# Altium footprint library DIODE_SOD-323-2.PcbLib: 1 footprints
Each footprint in its own frame and in the unit in brackets; x right, y up, seen from the top. Pads: shape width x height; smd on the part's side, far side on the other; paste and mask are expansions set on the pad; w line width, h text height; cw(c..) or ccw(c..) is an arc to the next point about the centre after c.
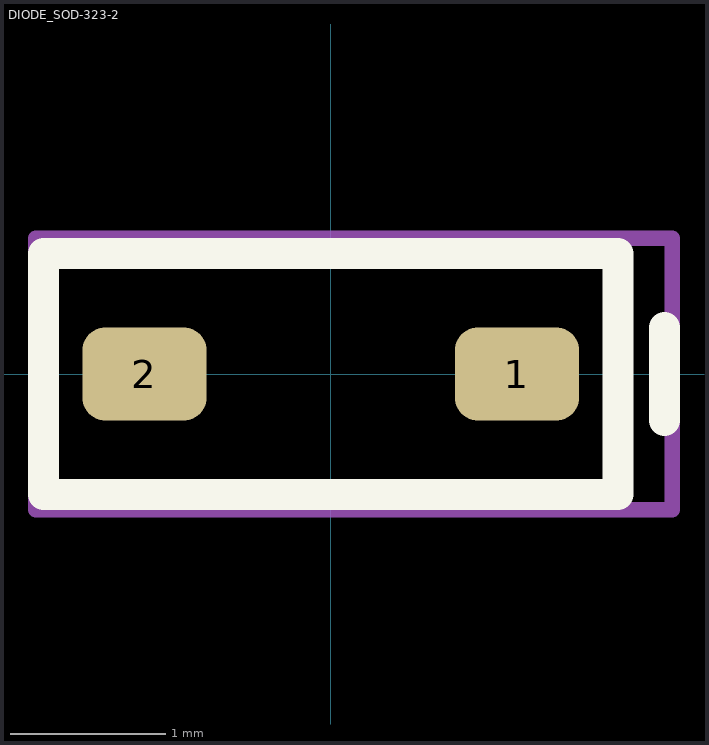
[diagram p0: the footprint, top view; thin cyan lines are the x and y axes]

## DIODE_SOD-323-2 [mm]
pads (2):
  rrect50% 0.8x0.6 smd: 1(1.2,0) 2(-1.2,0)
Top Overlay:
  lines w0.2: 2.15,-0.3 2.15,0.3 ; -1.85,-0.775 1.85,-0.775 1.85,0.775 -1.85,0.775 -1.85,-0.775
Top Courtyard:
  lines w0.1: -1.9,-0.875 -1.9,0.875 2.2,0.875 2.2,-0.875 -1.9,-0.875
3D body "1PS76SB21,115.STEP": height 1.1, standoff 0, extent -1.25,-0.625 1.25,0.625